# EAGLE library part SCREW_TERMINAL_8POS (library airball)
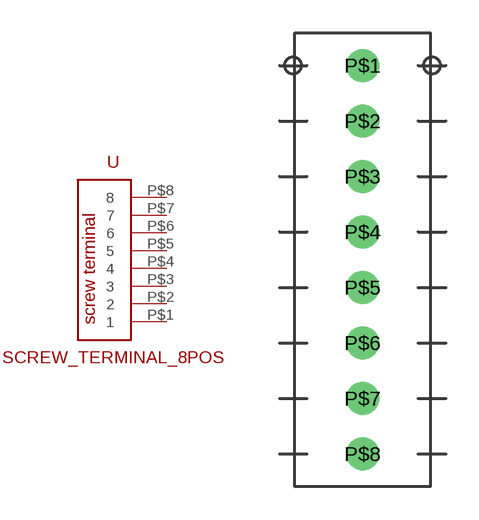
[diagram p18: symbol with the pads of SCREW_TERMINAL_8POS; footprint SCREW_TERMINAL_8POS]

Designator prefix -

## SCREW_TERMINAL_8POS  [SCREW_TERMINAL_8POS]
P$1  1
P$2  2
P$3  3
P$4  4
P$5  5
P$6  6
P$7  7
P$8  8

## Footprint SCREW_TERMINAL_8POS (pad centres in mm)
drill 1: P$1 0,0; P$2 0,-2.54; P$3 0,-5.08; P$4 0,-7.62; P$5 0,-10.16; P$6 0,-12.7; P$7 0,-15.24; P$8 0,-17.78